# Altium footprint library Ai-Thinker.PcbLib: 1 footprints
Each footprint in its own frame and in the unit in brackets; x right, y up, seen from the top. Pads: shape width x height; smd on the part's side, far side on the other; paste and mask are expansions set on the pad; w line width, h text height; cw(c..) or ccw(c..) is an arc to the next point about the centre after c.
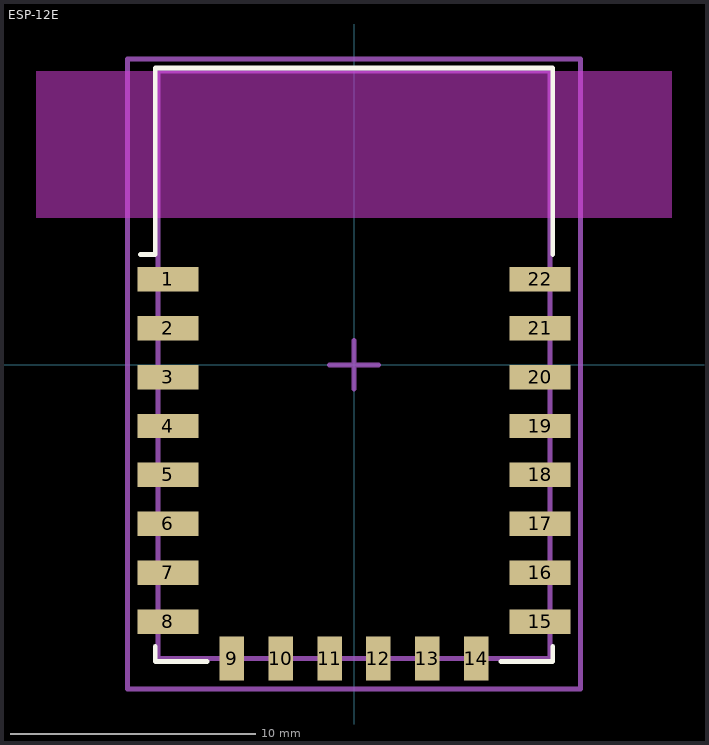
[diagram p0: the footprint, top view; thin cyan lines are the x and y axes]

## ESP-12E [mm] "Wi-Fi Module"
pads (22):
  rect 2.5x1 smd mask+0.05: 1(-7.6,3.5) 2(-7.6,1.5) 3(-7.6,-0.5) 4(-7.6,-2.5) 5(-7.6,-4.5) 6(-7.6,-6.5) 7(-7.6,-8.5) 8(-7.6,-10.5) 15(7.6,-10.5) 16(7.6,-8.5) 17(7.6,-6.5) 18(7.6,-4.5) 19(7.6,-2.5) 20(7.6,-0.5) 21(7.6,1.5) 22(7.6,3.5)
  rect 1x1.8 smd mask+0.05: 9(-5,-12) 10(-3,-12) 11(-1,-12) 12(1,-12) 13(3,-12) 14(5,-12)
Top Overlay:
  lines w0.2: -8.73,4.5 -8.12,4.5 -8.12,12.12 8.12,12.12 8.12,4.5 ; -8.12,-11.5 -8.12,-12.12 -6,-12.12 ; 6,-12.12 8.12,-12.12 8.12,-11.5
Keep-Out Layer:
  rectangle: -13,6 13,12
Top Assembly:
  lines w0.2: -8,-12 8,-12 8,12 -8,12 -8,-12
Top Component Center:
  lines w0.2: -1,0 1,0 ; 0,-1 0,1
Top Component Outline:
  lines w0.2: -8,-12 8,-12 8,12 -8,12 -8,-12
Top Courtyard:
  lines w0.2: -9.25,-13.25 9.25,-13.25 9.25,12.5 -9.25,12.5 -9.25,-13.25
Top Designator:
  text ".Designator" at -7.618,-0.873 h1.52
3D body "EPS8266 ESP-12E.step": height 2.7, standoff 0.01, extent -8.005,-12.005 8.005,12